# Altium schematic symbol library C.SchLib: 64 symbols (part 2 of 2)
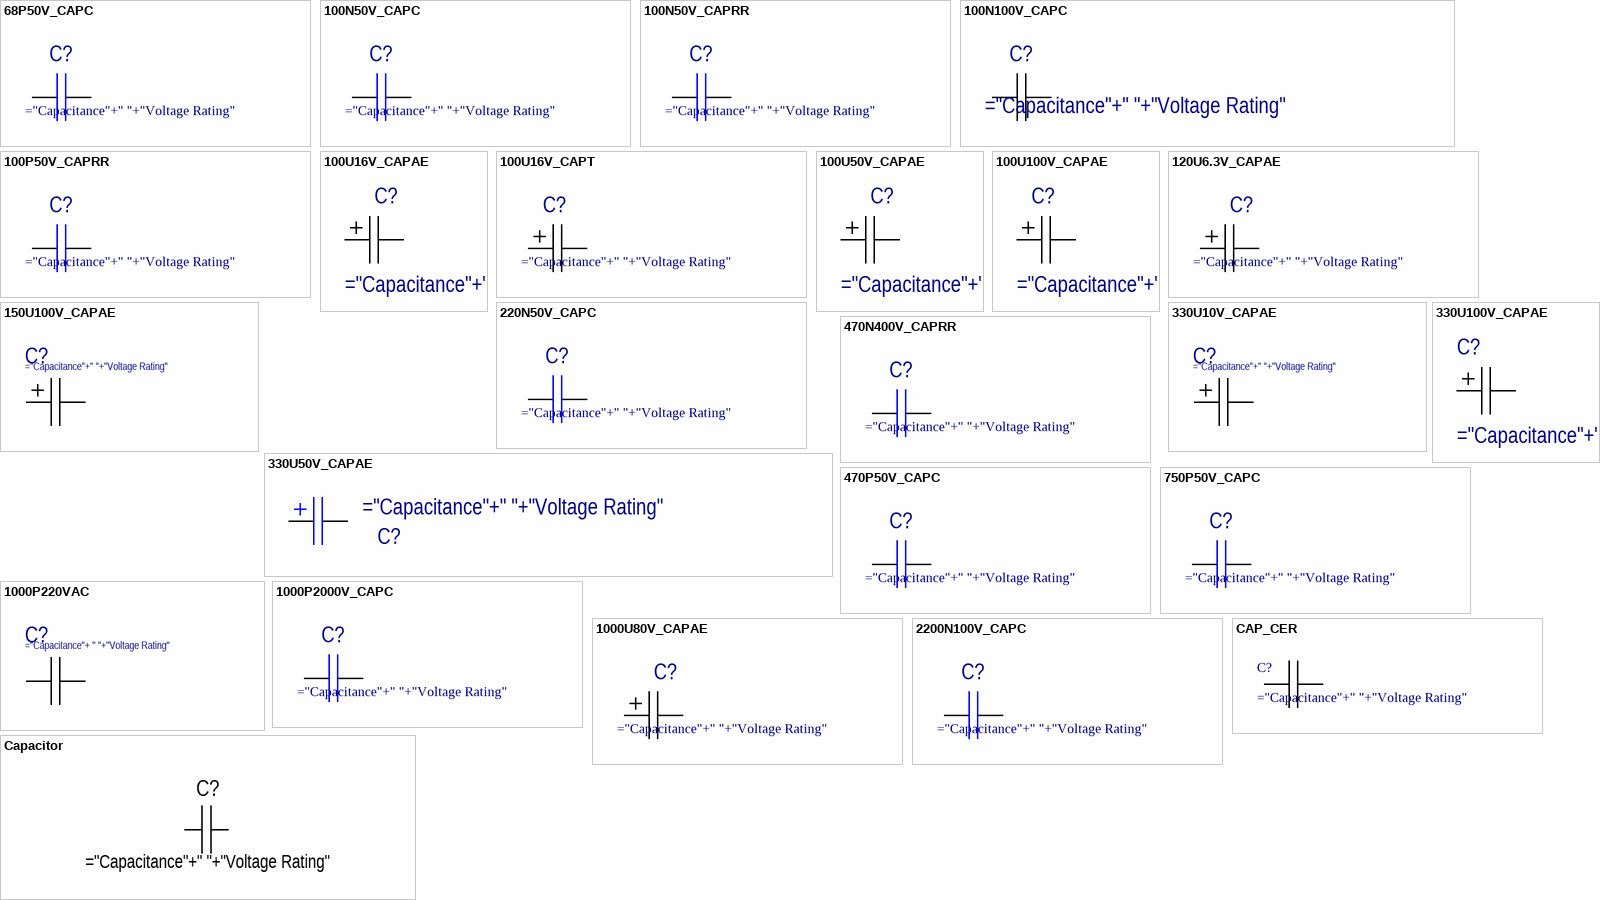
[diagram p2: symbols 68P50V_CAPC to Capacitor]

## Capacitor
designator C?
Manufacturer: *; Model: *; HelpURL: *; ComponentKind: *; Value: *
footprint CAP: Alchip™- MVY
footprint CAP: B32021
footprint CAP: B32521
footprint CAP: B32522
footprint CAP: B32653A
footprint CAP: B32654
footprint CAP: B32672L
footprint CAP: B32674
footprint CAP: B32676
footprint CAP: B32774
footprint CAP: B32776
footprint CAP: B32923
footprint CAP: DEBB33D
footprint CAP: ECW
footprint CAP: EZPE
footprint CH0201C
footprint CH0402C
footprint CH0603C (Chip Capacitor, 2-Leads, Body 1,53x0,85mm, IPC Medium Density)
footprint CH0805C (Chip Capacitor, 2-Leads, Body 2,00x1,20mm, IPC Medium Density)
footprint CH1206C (Non polar chip capacitor, size 1206)
footprint CH1210C (Non polar chip capacitor, size 1210)
footprint CH1812C
footprint CH2220C
pins: 1 (power), 2 (power)